# EAGLE library part IRF7805 (library m-pad)
Internation Rectifier's IRF7805 HEXFET® Chip-Set for DC-DC Converters Description: This new device employs advanced HEXFET Power MOSFET technology to achieve an unprecedented balance of on-resistance and gate charge. The reduced conduction and switching losses make this device ideal for high efficiency DC-DC Converters that power the latest generation of mobile microprocessors. The IRF7805 offers maximum efficiency for mobile CPU core DC-DC converters. N Channel Application Specific MOSFETs Ideal for Mobile DC-DC Converters Low Conduction Losses Low Switching Losses VDS = 30V RDS(on) = 11mOhm Qg = 31nC Please send any comments to: messi@users.sourceforge.net
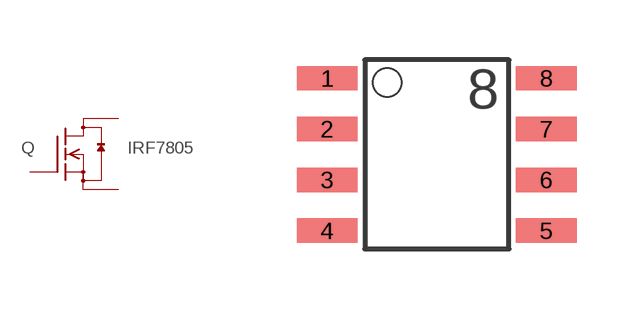
[diagram p161: symbol with the pads of SO-8; footprint SO-8]

Designator prefix Q

## IRF7805  [SO-8]
1  S  pas
2  S  pas
3  S  pas
4  G  pas
5  D  pas
6  D  pas
7  D  pas
8  D  pas

## Footprint SO-8 (pad centres in mm)
small outline
smd 1.524 x 0.61: 1 -2.743,1.27; 2 -2.743,0; 3 -2.743,-1.27; 4 -2.743,-2.54; 5 2.743,-2.54; 6 2.743,-1.27; 7 2.743,0; 8 2.743,1.27